# EAGLE library part JTAG-10 (library usbxlater)
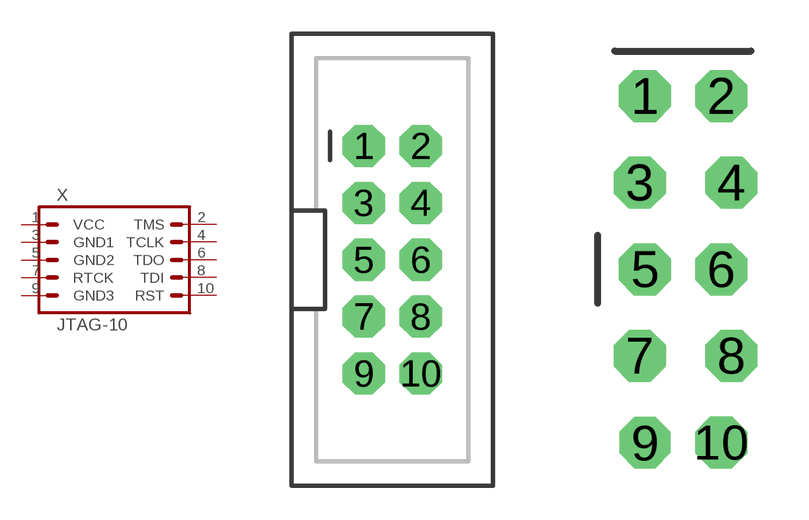
[diagram p5: symbol with the pads of 2X5-SHROUDED; footprints 2X5-SHROUDED, 2X5-SHROUDED-LOCKED]

Designator prefix X

## JTAG-10-2X5-SHROUDED  [2X5-SHROUDED]
1  VCC  pas
2  TMS  pas
3  GND1  pas
4  TCLK  pas
5  GND2  pas
6  TDO  pas
7  RTCK  pas
8  TDI  pas
9  GND3  pas
10  RST  pas

## JTAG-10-2X5-SHROUDED-LOCKED  [2X5-SHROUDED-LOCKED]
Pads as for 2X5-SHROUDED

## Footprint 2X5-SHROUDED (pad centres in mm)
drill 1.016 pad 1.88 octagon: 1 -1.27,5.08; 2 1.27,5.08; 3 -1.27,2.54; 4 1.27,2.54; 5 -1.27,0; 6 1.27,0; 7 -1.27,-2.54; 8 1.27,-2.54; 9 -1.27,-5.08; 10 1.27,-5.08

## Footprint 2X5-SHROUDED-LOCKED (pad centres in mm)
drill 1.016 octagon: 1 -1.12,5.08; 2 1.12,5.08; 3 -1.27,2.54; 4 1.42,2.54; 5 -1.12,0; 6 1.12,0; 7 -1.27,-2.54; 8 1.42,-2.54; 10 1.12,-5.08
drill 1 octagon: 9 -1.12,-5.08